# EAGLE library part LT1932ES (library keen)
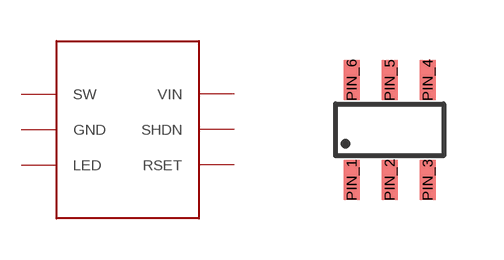
[diagram p0: symbol with the pads of 6PIN_SOT23; footprint 6PIN_SOT23]

Designator prefix -

## LT1932ES  [6PIN_SOT23]
PIN_1  SW
PIN_2  GND
PIN_3  LED
PIN_4  RSET
PIN_5  SHDN
PIN_6  VIN

## Footprint 6PIN_SOT23 (pad centres in mm)
smd 0.4 x 1: PIN_1 0.4,-1.9; PIN_2 1.35,-1.9; PIN_3 2.3,-1.9; PIN_4 2.3,0.6; PIN_5 1.35,0.6; PIN_6 0.4,0.6